# EAGLE library part IC_LMH1251 (library akita)
TI, Component->RGB transcoder
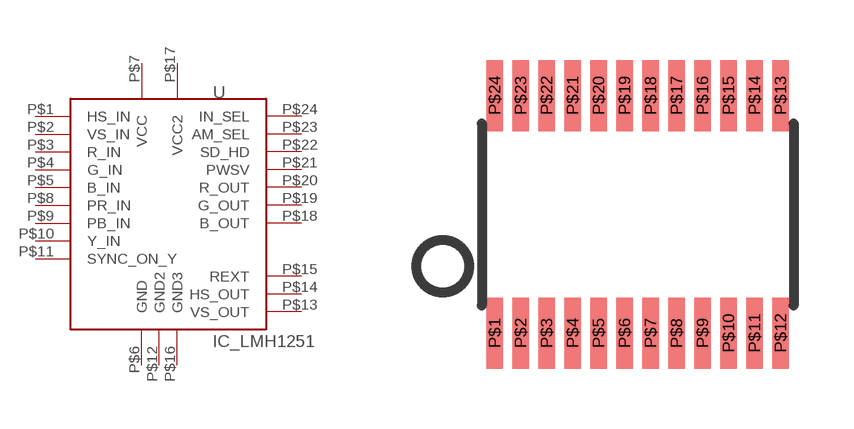
[diagram p148: symbol with the pads of TSSOP24; footprint TSSOP24]

Designator prefix U

## IC_LMH1251  [TSSOP24]
P$1  HS_IN
P$2  VS_IN
P$3  R_IN
P$4  G_IN
P$5  B_IN
P$6  GND
P$7  VCC
P$8  PR_IN
P$9  PB_IN
P$10  Y_IN
P$11  SYNC_ON_Y
P$12  GND2
P$13  VS_OUT
P$14  HS_OUT
P$15  REXT
P$16  GND3
P$17  VCC2
P$18  B_OUT
P$19  G_OUT
P$20  R_OUT
P$21  PWSV
P$22  SD_HD
P$23  AM_SEL
P$24  IN_SEL

## Footprint TSSOP24 (pad centres in mm)
TSSOP24, 0.65mm pitch
smd 0.42 x 1.78: P$1 -3.575,-2.97; P$2 -2.925,-2.97; P$3 -2.275,-2.97; P$4 -1.625,-2.97; P$5 -0.975,-2.97; P$6 -0.325,-2.97; P$7 0.325,-2.97; P$8 0.975,-2.97; P$9 1.625,-2.97; P$10 2.275,-2.97; P$11 2.925,-2.97; P$12 3.575,-2.97; P$13 3.575,2.97; P$14 2.925,2.97; P$15 2.275,2.97; P$16 1.625,2.97; P$17 0.975,2.97; P$18 0.325,2.97; P$19 -0.325,2.97; P$20 -0.975,2.97; P$21 -1.625,2.97; P$22 -2.275,2.97; P$23 -2.925,2.97; P$24 -3.575,2.97